# Altium footprint library Arduino_4_Layer.PcbLib: 19 footprints (part 1 of 2)
Each footprint in its own frame and in the unit in brackets; x right, y up, seen from the top. Pads: shape width x height; smd on the part's side, far side on the other; paste and mask are expansions set on the pad; w line width, h text height; cw(c..) or ccw(c..) is an arc to the next point about the centre after c.
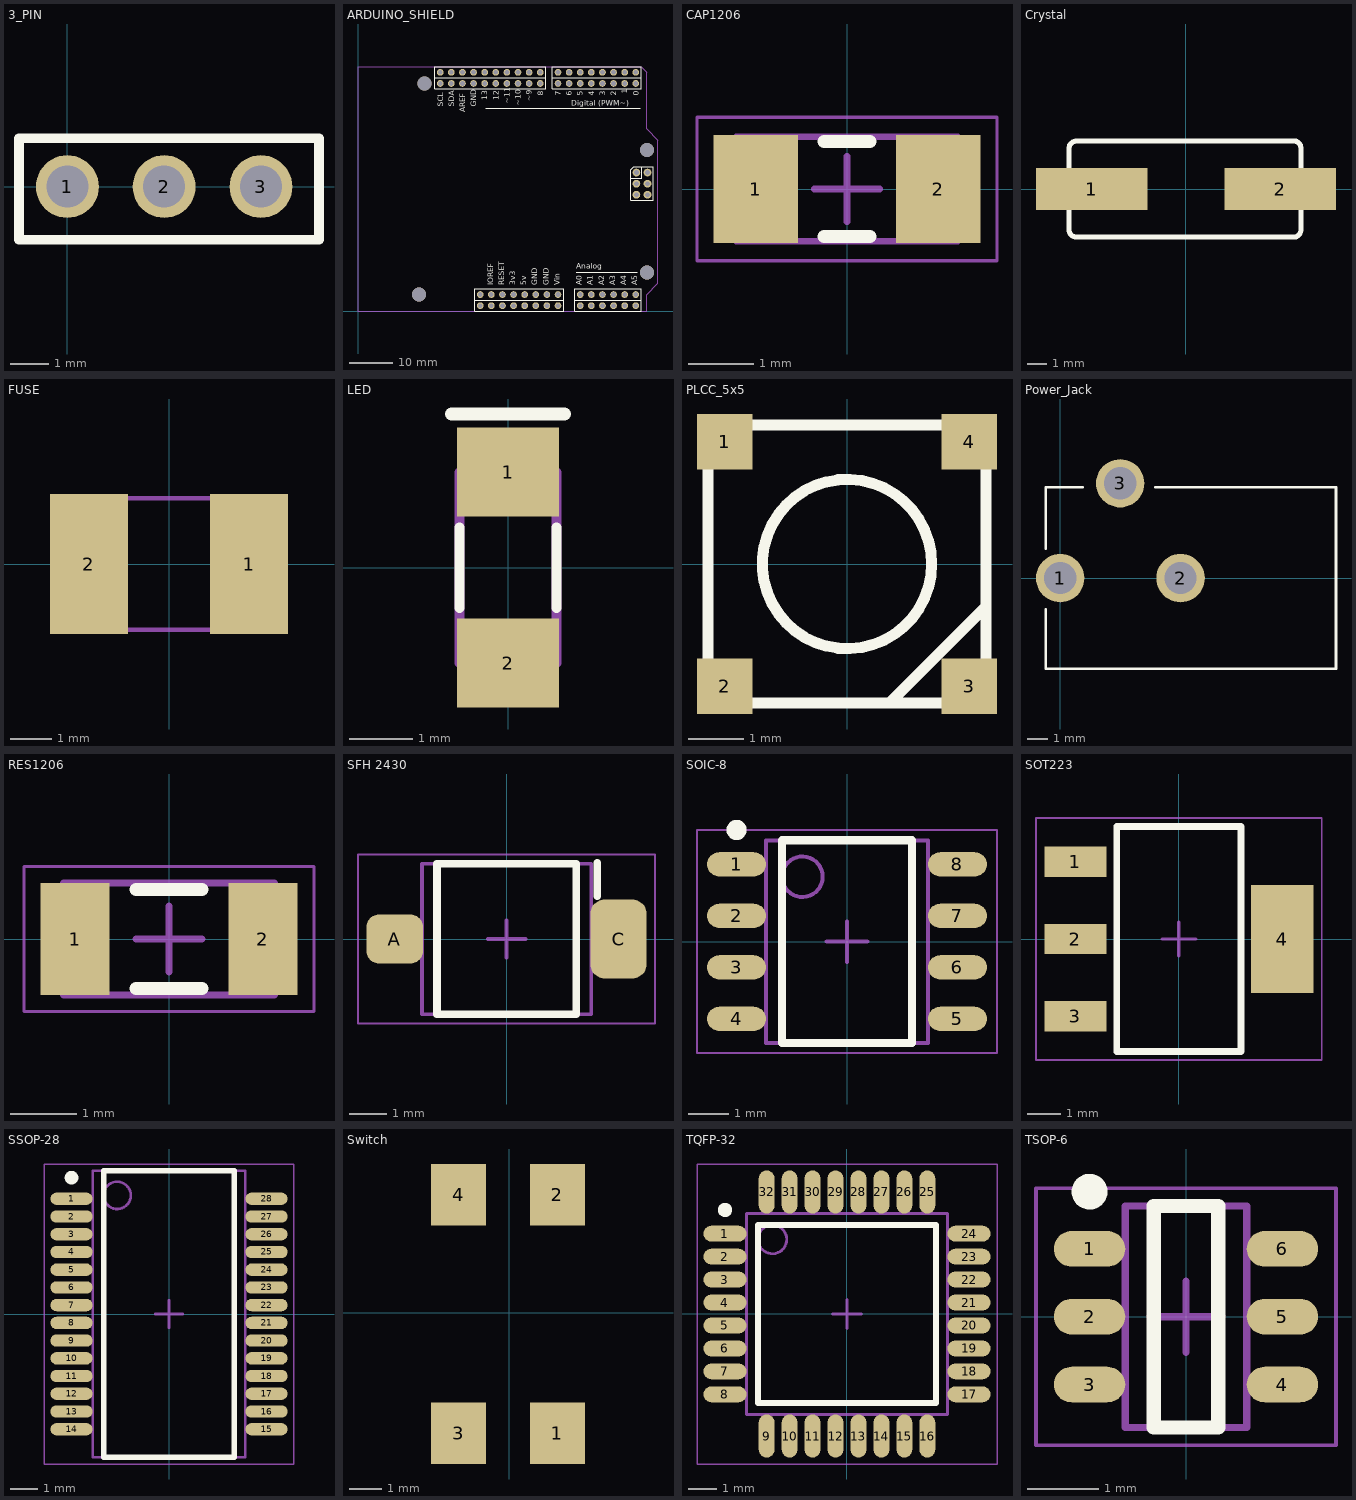
[diagram p0: the footprints below, top view; thin cyan lines are the x and y axes]

## 3_PIN [mm]
pads (3):
  round 1.65 hole 1.1: 1(0,0) 2(2.54,0) 3(5.08,0)
Top Overlay:
  lines w0.254: -1.27,-1.397 6.604,-1.397 6.604,1.27 -1.27,1.27 -1.27,-1.397
3D body "PREC003SAAN-RC.step": height 8.36, standoff -3.03, extent -1.279,-1.27 6.341,1.27

## ARDUINO_SHIELD [mil]
pads (70):
  round 60 hole 43.31: A1(2000,150) A2(2100,150) A3(2200,150) A4(2300,150) A5(2400,150) A6(2500,150) B1(1800,150) B2(1700,150) B3(1600,150) B4(1500,150) B5(1400,150) B6(1300,150) B7(1200,150) B8(1100,150) C1(2500,2050) C2(2400,2050) C3(2300,2050) C4(2200,2050) C5(2100,2050) C6(2000,2050) C7(1900,2050) C8(1800,2050) D1(1640,2050) D2(1540,2050) D3(1440,2050) D4(1340,2050) D5(1240,2050) D6(1140,2050) D7(1040,2050) D8(940,2050) D9(840,2050) D10(740,2050) G(740,2150) G(840,2150) G(940,2150) G(1040,2150) G(1100,50) G(1140,2150) G(1200,50) G(1240,2150) G(1300,50) G(1340,2150) G(1400,50) G(1440,2150) G(1500,50) G(1540,2150) G(1600,50) G(1640,2150) G(1700,50) G(1800,50) G(1800,2150) G(1900,2150) G(2000,50) G(2000,2150) G(2100,50) G(2100,2150) G(2200,50) G(2200,2150) G(2300,50) G(2300,2150) G(2400,50) G(2400,2150) G(2500,50) G(2500,2150)
  round 70 hole 43.31: E1(2505.51,1248.03) E2(2605.51,1248.03) E3(2505.51,1148.03) E4(2605.51,1148.03) E5(2505.51,1048.03) E6(2605.51,1048.03)
via 550,150 diameter 125 hole 125
via 600,2050 diameter 125 hole 125
via 2600,1450 diameter 125 hole 125
via 2600,350 diameter 125 hole 125
Top Overlay:
  lines w10: 1150,1825 2540,1825 ; 1965,350 2515,350 ; 2455.51,1198.03 2555.51,1198.03 2555.51,1298.03 ; 690,2100 690,2000 1590,2000 1690,2000 1690,2100 ; 690,2100 1590,2100 1690,2100 ; 690,2100 690,2200 1590,2200 1690,2200 1690,2100 ; 1050,100 1050,200 1850,200 1850,100 ; 1050,100 1850,100 ; 1050,100 1050,0 1850,0 1850,100 ; 1750,2100 1750,2000 2550,2000 2550,2100 ; 1750,2100 2550,2100 ; 1750,2100 1750,2200 2550,2200 2550,2100 ; 1950,100 1950,150 1950,200 2050,200 2550,200 2550,100 ; 1950,100 2050,100 2550,100 ; 1950,100 1950,50 1950,0 2050,0 2550,0 2550,100 ; 2455.51,998.03 2655.51,998.03 2655.51,1298.03 2480.51,1298.03 2455.51,1273.03 2455.51,998.03
  text "A5" at 2515,235 h50
  text "A4" at 2415,235 h50
  text "A3" at 2315,235 h50
  text "A2" at 2215,235 h50
  text "A0" at 2015,235 h50
  text "A1" at 2115,235 h50
  text "0" at 2525,1940 h50
  text "1" at 2425,1955 h50
  text "2" at 2325,1940 h50
  text "3" at 2225,1940 h50
  text "4" at 2125,1940 h50
  text "5" at 2025,1940 h50
  text "6" at 1925,1940 h50
  text "IOREF" at 1215,235 h50
  text "RESET" at 1315,235 h50
  text "3v3" at 1415,235 h50
  text "5v" at 1515,235 h50
  text "GND" at 1615,235 h50
  text "GND" at 1715,235 h50
  text "Vin" at 1815,235 h50
  text "8" at 1665,1940 h50
  text "~9" at 1565,1890 h50
  text "~10" at 1465,1850 h50
  text "~11" at 1365,1865 h50
  text "12" at 1265,1900 h50
  text "13" at 1165,1900 h50
  text "GND" at 1065,1840 h50
  text "AREF" at 965,1790 h50
  text "SDA" at 865,1840 h50
  text "SCL" at 765,1840 h50
  text "7" at 1825,1940 h50
  text "Digital (PWM~)" at 1920,1850 h50
  text "Analog" at 1965,380 h50
Mechanical 13:
  lines w7.87: 0,0 0,2200 2550,2200 2600,2150 2600,1640 2700,1540 2700,250 2600,150 2600,0 0,0
3D body "PPTC061LFBN-RC.step": height 335.83, standoff -124.8, extent 1939.96,0 2559.65,100
3D body "PPTC081LFBN-RC.step": height 335.83, standoff -124.8, extent 1040,0.79 1859.68,100.79
3D body "PPTC081LFBN-RC.step": height 335.83, standoff -124.8, extent 1740,2100.79 2559.68,2200.79
3D body "PPTC101LFBN-RC.step": height 335.83, standoff -124.8, extent 680.55,2099.34 1700.24,2199.34
3D body "PPTC061LFBN-RC.step": height 335.83, standoff -124.8, extent 1939.96,100 2559.65,200
3D body "PPTC081LFBN-RC.step": height 335.83, standoff -124.8, extent 1740,2000.79 2559.68,2100.79
3D body "PPTC081LFBN-RC.step": height 335.83, standoff -124.8, extent 1040,100.79 1859.68,200.79
3D body "PPTC101LFBN-RC.step": height 335.83, standoff -124.8, extent 680.55,1999.34 1700.24,2099.34
3D body "PREC003DAAN-RC.step": height 329.09, standoff -119.29, extent 2456.9,997.44 2653.75,1297.44

## CAP1206 [mm] "Chip Capacitor, 2-Leads, Body 3.20x1.50mm, IPC Medium Density"
height 0.56
pads (2):
  rect 1.3x1.65 smd: 1(-1.4,0) 2(1.4,0)
Top Overlay:
  lines w0.2: -0.35,-0.725 0.35,-0.725 ; -0.35,0.725 0.35,0.725
Mechanical 13:
  lines w0.1: -1.7,-0.8 1.7,-0.8 1.7,0.8 -1.7,0.8 -1.7,-0.8
Mechanical 15:
  lines w0.05: -2.3,-1.1 2.3,-1.1 2.3,1.1 -2.3,1.1 -2.3,-1.1
  lines w0.1: -0.5,0 0.5,0 ; 0,-0.5 0,0.5
3D body "CAPC3215X06N.step": height 0.56, standoff 0, extent -1.7,-0.8 1.7,0.8

## Crystal [mm]
pads (2):
  rect 5.6x2.1 smd: 1(-4.75,0) 2(4.75,0)
Top Overlay:
  lines w0.254: -5.893,-2.038 -5.893,2.038 ; -5.893,-2.032 ccw(c-5.506,-2.038) -5.512,-2.425 5.41,-2.425 ; -5.893,2.032 cw(c-5.512,2.032) -5.512,2.413 ; -5.512,2.425 5.41,2.425 cw(c5.404,2.038) 5.791,2.032 5.791,-2.038 cw(c5.404,-2.038) 5.404,-2.425
3D body "User Library-ABLS2.STEP": height 4, standoff 0, extent -6.701,-2.425 6.599,2.425

## FUSE [mm]
pads (2):
  rect 1.9x3.4 smd: 1(1.95,0) 2(-1.95,0)
Mechanical 4:
  region: -1.45,-1.649 -2.398,-1.649 -2.398,1.653 -1.45,1.653
  region: 2.39,-1.649 1.438,-1.649 1.438,1.652 2.39,1.652
  region: -1.45,-1.649 -2.398,-1.649 -2.398,1.653 -1.45,1.653
  region: 2.39,-1.649 1.438,-1.649 1.438,1.652 2.39,1.652
  lines w0.102: -1.473,-1.6 1.473,-1.6 -1.473,-1.6 ; -1.473,1.6 1.448,1.6 -1.473,1.6
3D body "MF-MSMF050-2.step": height 0.68, standoff -0.02, extent -2.28,-1.624 2.27,1.616

## LED [mil]
pads (2):
  rect 63x55 smd: 1(0,59) 2(0,-59)
Top Overlay:
  lines w6: -30,-25 -30,25 ; 30,-25 30,25
  lines w7.87: -35,95 35,95
Mechanical 4:
  lines w6: -30,-59 30,-59 ; -30,-59 -30,59 ; -30,-59 30,-59 ; -30,59 30,59 ; -30,59 30,59 ; 30,-59 30,59
3D body "LTST-C150CKT.step": height 43.7, standoff 0, extent -31.5,-62.99 31.5,63

## PLCC_5x5 [mm] "PLCC 5x5 LED"
pads (4):
  rect 1x1 smd: 1(-2.2,2.2) 2(-2.2,-2.2) 3(2.2,-2.2) 4(2.2,2.2)
Top Overlay:
  circle w0.2: c0,0 r1.524
  lines w0.2: 0.762,-2.5 2.5,-0.762 ; -2.5,-2.5 -2.5,2.5 2.5,2.5 2.5,-2.5 -2.5,-2.5

## Power_Jack [mm]
pads (3):
  round 2.4 hole 1.6: 1(0,0) 2(5.969,0) 3(2.977,4.7)
Top Overlay:
  lines w0.127: -0.723,-1.55 -0.723,-4.5 13.677,-4.5 13.677,4.5 4.727,4.5 ; -0.723,1.45 -0.723,4.5 1.127,4.5
  lines w0.254: 5.969,0 5.977,0
3D body "DC Power Jack 5.5mm x 2.1mm.STEP": height 10.68, standoff -3.7, extent -0.465,-4.49 14.155,5.28

## RES1206 [mm] "Chip Resistor, 2-Leads, Body 3.10x1.60mm, IPC Medium Density"
height 0.65
pads (2):
  rect 1.05x1.7 smd: 1(-1.425,0) 2(1.425,0)
Top Overlay:
  lines w0.2: -0.5,-0.75 0.5,-0.75 ; -0.5,0.75 0.5,0.75
Mechanical 13:
  lines w0.1: -1.6,-0.85 -1.6,0.85 1.6,0.85 1.6,-0.85 -1.6,-0.85
Mechanical 15:
  lines w0.05: -2.2,-1.1 -2.2,1.1 2.2,1.1 2.2,-1.1 -2.2,-1.1
  lines w0.1: -0.5,0 0.5,0 ; 0,-0.5 0,0.5
3D body "RESC3116X06N.step": height 0.65, standoff 0, extent -1.6,-0.85 1.6,0.85

## SFH 2430 [mm] "SOIC, 2-Leads, Body 3.85x4.40mm, Pitch 1.27mm, IPC Medium Density"
height 1.2
pads (2):
  rrect50% 1.5x1.3 smd: A(-2.975,0)
  rrect50% 1.5x2.1 smd: C(2.975,0)
Top Overlay:
  lines w0.2: 2.413,1.143 2.413,2.032 ; -1.85,-2 -1.85,2 1.85,2 1.85,-2 -1.85,-2
Mechanical 13:
  lines w0.1: -2.25,-2 -2.25,2 2.25,2 2.25,-2 -2.25,-2
Mechanical 15:
  lines w0.05: -3.95,-2.25 -3.95,2.25 3.95,2.25 3.95,-2.25 -3.95,-2.25
  lines w0.1: -0.5,0 0.5,0 ; 0,-0.5 0,0.5
3D body "SOIC127P640X120-2N.step": height 1.2, standoff 0, extent -2.832,-2 2.832,2

## SOIC-8 [mm] "SOIC, 8-Leads, Body 4.90x3.90mm, Pitch 1.27mm, IPC Medium Density"
height 1.75
pads (8):
  oval 1.45x0.6 smd: 1(-2.725,1.905) 2(-2.725,0.635) 3(-2.725,-0.635) 4(-2.725,-1.905) 5(2.725,-1.905) 6(2.725,-0.635) 7(2.725,0.635) 8(2.725,1.905)
Top Overlay:
  circle w0.25: c-2.725,2.755 r0.125
  lines w0.2: -1.6,-2.5 1.6,-2.5 1.6,2.5 -1.6,2.5 -1.6,-2.5
Mechanical 13:
  circle w0.1: c-1.1,1.6 r0.5
  lines w0.1: -2,-2.5 2,-2.5 2,2.5 -2,2.5 -2,-2.5
Mechanical 15:
  lines w0.05: -3.7,-2.75 3.7,-2.75 3.7,2.75 -3.7,2.75 -3.7,-2.75
  lines w0.1: -0.5,0 0.5,0 ; 0,-0.5 0,0.5
3D body "SOIC127P600X175-8N.step": height 1.75, standoff 0, extent -3,-2.5 3,2.5

## SOT223 [mm] "SOT223, 4-Leads, Body 6.50x7.00mm (avg), Pitch 2.30mm, IPC Medium Density"
height 1.8
pads (4):
  rect 1.85x0.9 smd: 1(-3.075,2.3) 2(-3.075,0) 3(-3.075,-2.3)
  rect 1.85x3.2 smd: 4(3.075,0)
Top Overlay:
  lines w0.2: -1.85,-3.35 -1.85,3.35 1.85,3.35 1.85,-3.35 -1.85,-3.35
Mechanical 13:
  lines w0.1: -1.85,-3.35 -1.85,3.35 1.85,3.35 1.85,-3.35 -1.85,-3.35
Mechanical 15:
  lines w0.05: -4.25,-3.6 -4.25,3.6 4.25,3.6 4.25,-3.6 -4.25,-3.6
  lines w0.1: -0.5,0 0.5,0 ; 0,-0.5 0,0.5
3D body "SOT230P700X180-4N.step": height 1.8, standoff 0, extent -3.5,-3.35 3.5,3.35

## SSOP-28 [mm] "SOP, 28-Leads, Body 10.28x5.30mm, Pitch 0.65mm, IPC Medium Density"
height 2
pads (28):
  oval 1.55x0.45 smd mask+0.05: 1(-3.575,4.225) 2(-3.575,3.575) 3(-3.575,2.925) 4(-3.575,2.275) 5(-3.575,1.625) 6(-3.575,0.975) 7(-3.575,0.325) 8(-3.575,-0.325) 9(-3.575,-0.975) 10(-3.575,-1.625) 11(-3.575,-2.275) 12(-3.575,-2.925) 13(-3.575,-3.575) 14(-3.575,-4.225) 15(3.575,-4.225) 16(3.575,-3.575) 17(3.575,-2.925) 18(3.575,-2.275) 19(3.575,-1.625) 20(3.575,-0.975) 21(3.575,-0.325) 22(3.575,0.325) 23(3.575,0.975) 24(3.575,1.625) 25(3.575,2.275) 26(3.575,2.925) 27(3.575,3.575) 28(3.575,4.225)
Top Overlay:
  circle w0.25: c-3.575,5 r0.125
  lines w0.2: -2.4,-5.25 -2.4,5.25 2.4,5.25 2.4,-5.25 -2.4,-5.25
Mechanical 13:
  circle w0.1: c-1.9,4.35 r0.5
  lines w0.1: -2.8,-5.25 -2.8,5.25 2.8,5.25 2.8,-5.25 -2.8,-5.25
Mechanical 15:
  lines w0.05: -4.575,-5.5 -4.575,5.5 4.575,5.5 4.575,-5.5 -4.575,-5.5
  lines w0.1: -0.5,0 0.5,0 ; 0,-0.5 0,0.5
3D body "SOP65P780X200-28N.step": height 2, standoff 0, extent -3.888,-5.25 3.888,5.25

## Switch [mm]
pads (4):
  rect 1.7x1.9 smd: 1(1.479,-3.727) 2(1.479,3.639) 3(-1.569,-3.727) 4(-1.569,3.639)
3D body "TL3305AF160QG.step": height 3.8, standoff 0, extent -2.3,-3.75 2.2,3.75

## TQFP-32 [mm] "TQFP, 32-Leads, Body 7.00x7.00mm, Pitch 0.80mm, IPC Medium Density"
height 1.2
pads (32):
  oval 1.5x0.55 smd mask+0.05: 1(-4.25,2.8) 2(-4.25,2) 3(-4.25,1.2) 4(-4.25,0.4) 5(-4.25,-0.4) 6(-4.25,-1.2) 7(-4.25,-2) 8(-4.25,-2.8) 17(4.25,-2.8) 18(4.25,-2) 19(4.25,-1.2) 20(4.25,-0.4) 21(4.25,0.4) 22(4.25,1.2) 23(4.25,2) 24(4.25,2.8)
  oval 0.55x1.5 smd mask+0.05: 9(-2.8,-4.25) 10(-2,-4.25) 11(-1.2,-4.25) 12(-0.4,-4.25) 13(0.4,-4.25) 14(1.2,-4.25) 15(2,-4.25) 16(2.8,-4.25) 25(2.8,4.25) 26(2,4.25) 27(1.2,4.25) 28(0.4,4.25) 29(-0.4,4.25) 30(-1.2,4.25) 31(-2,4.25) 32(-2.8,4.25)
Top Overlay:
  circle w0.25: c-4.25,3.625 r0.125
  lines w0.2: -3.1,-3.1 -3.1,3.1 3.1,3.1 3.1,-3.1 -3.1,-3.1
Mechanical 13:
  circle w0.1: c-2.6,2.6 r0.5
  lines w0.1: -3.5,-3.5 -3.5,3.5 3.5,3.5 3.5,-3.5 -3.5,-3.5
Mechanical 15:
  lines w0.05: -5.225,-5.225 -5.225,5.225 5.225,5.225 5.225,-5.225 -5.225,-5.225
  lines w0.1: -0.5,0 0.5,0 ; 0,-0.5 0,0.5
3D body "TQFP.step": height 1.2, standoff 0, extent -4.5,-4.5 4.5,4.5

## TSOP-6 [mm] "TSOP, 6-Leads, Body 2.90x1.50mm, Pitch 0.95mm, IPC Medium Density"
height 1.1
pads (6):
  oval 1x0.5 smd: 1(-1.35,0.95) 2(-1.35,0) 3(-1.35,-0.95) 4(1.35,-0.95) 5(1.35,0) 6(1.35,0.95)
Top Overlay:
  circle w0.25: c-1.35,1.75 r0.125
  lines w0.2: -0.45,-1.55 0.45,-1.55 0.45,1.55 -0.45,1.55 -0.45,-1.55
Mechanical 13:
  lines w0.1: -0.85,-1.55 0.85,-1.55 0.85,1.55 -0.85,1.55 -0.85,-1.55
Mechanical 15:
  lines w0.05: -2.1,-1.8 2.1,-1.8 2.1,1.8 -2.1,1.8 -2.1,-1.8
  lines w0.1: -0.5,0 0.5,0 ; 0,-0.5 0,0.5
3D body "TSOP6.step": height 1.1, standoff 0, extent -1.375,-1.55 1.375,1.55